# EAGLE library part SRAM-16BIT-8MBIT (library p.peter-ics)
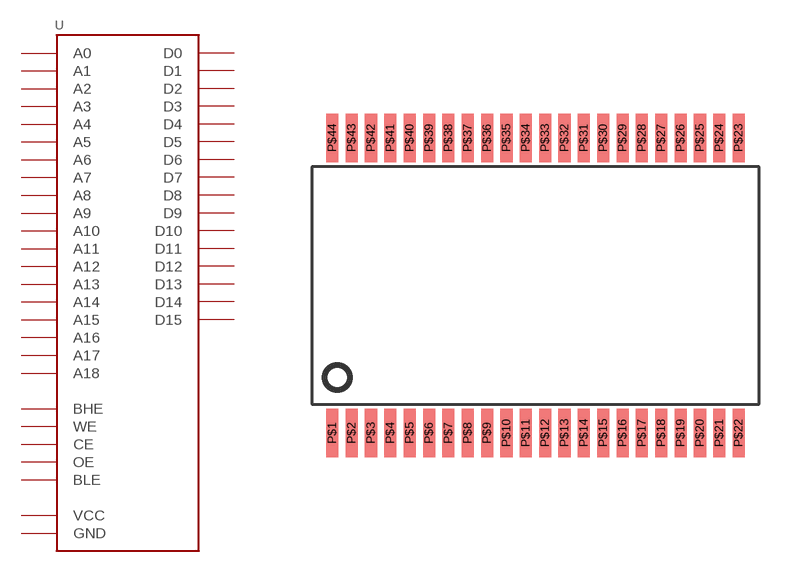
[diagram p6: symbol with the pads of TSOPII-44; footprint TSOPII-44]

Designator prefix -

## SRAM-16BIT-8MBITTSOP-2  [TSOPII-44]
P$1  A0
P$2  A1
P$3  A2
P$4  A3
P$5  A4
P$6  CE
P$7  D0
P$8  D1
P$9  D2
P$10  D3
P$11  VCC
P$12  GND
P$13  D4
P$14  D5
P$15  D6
P$16  D7
P$17  WE
P$18  A5
P$19  A6
P$20  A7
P$21  A8
P$22  A9
P$23  A10
P$24  A11
P$25  A12
P$26  A13
P$27  A14
P$28  A18
P$29  D8
P$30  D9
P$31  D10
P$32  D11
P$33  VCC
P$34  GND
P$35  D12
P$36  D13
P$37  D14
P$38  D15
P$39  BLE
P$40  BHE
P$41  OE
P$42  A15
P$43  A16
P$44  A17

## Footprint TSOPII-44 (pad centres in mm)
smd 0.5 x 2: P$1 -8.5,-6.1; P$2 -7.7,-6.1; P$3 -6.9,-6.1; P$4 -6.1,-6.1; P$5 -5.3,-6.1; P$6 -4.5,-6.1; P$7 -3.7,-6.1; P$8 -2.9,-6.1; P$9 -2.1,-6.1; P$10 -1.3,-6.1; P$11 -0.5,-6.1; P$12 0.3,-6.1; P$13 1.1,-6.1; P$14 1.9,-6.1; P$15 2.7,-6.1; P$16 3.5,-6.1; P$17 4.3,-6.1; P$18 5.1,-6.1; P$19 5.9,-6.1; P$20 6.7,-6.1; P$21 7.5,-6.1; P$22 8.3,-6.1; P$23 8.3,6.1; P$24 7.5,6.1; P$25 6.7,6.1; P$26 5.9,6.1; P$27 5.1,6.1; P$28 4.3,6.1; P$29 3.5,6.1; P$30 2.7,6.1; P$31 1.9,6.1; P$32 1.1,6.1; P$33 0.3,6.1; P$34 -0.5,6.1; P$35 -1.3,6.1; P$36 -2.1,6.1; P$37 -2.9,6.1; P$38 -3.7,6.1; P$39 -4.5,6.1; P$40 -5.3,6.1; P$41 -6.1,6.1; P$42 -6.9,6.1; P$43 -7.7,6.1; P$44 -8.5,6.1